# Altium footprint library Connector_Harting.PcbLib: 33 footprints (part 1 of 3)
Each footprint in its own frame and in the unit in brackets; x right, y up, seen from the top. Pads: shape width x height; smd on the part's side, far side on the other; paste and mask are expansions set on the pad; w line width, h text height; cw(c..) or ccw(c..) is an arc to the next point about the centre after c.
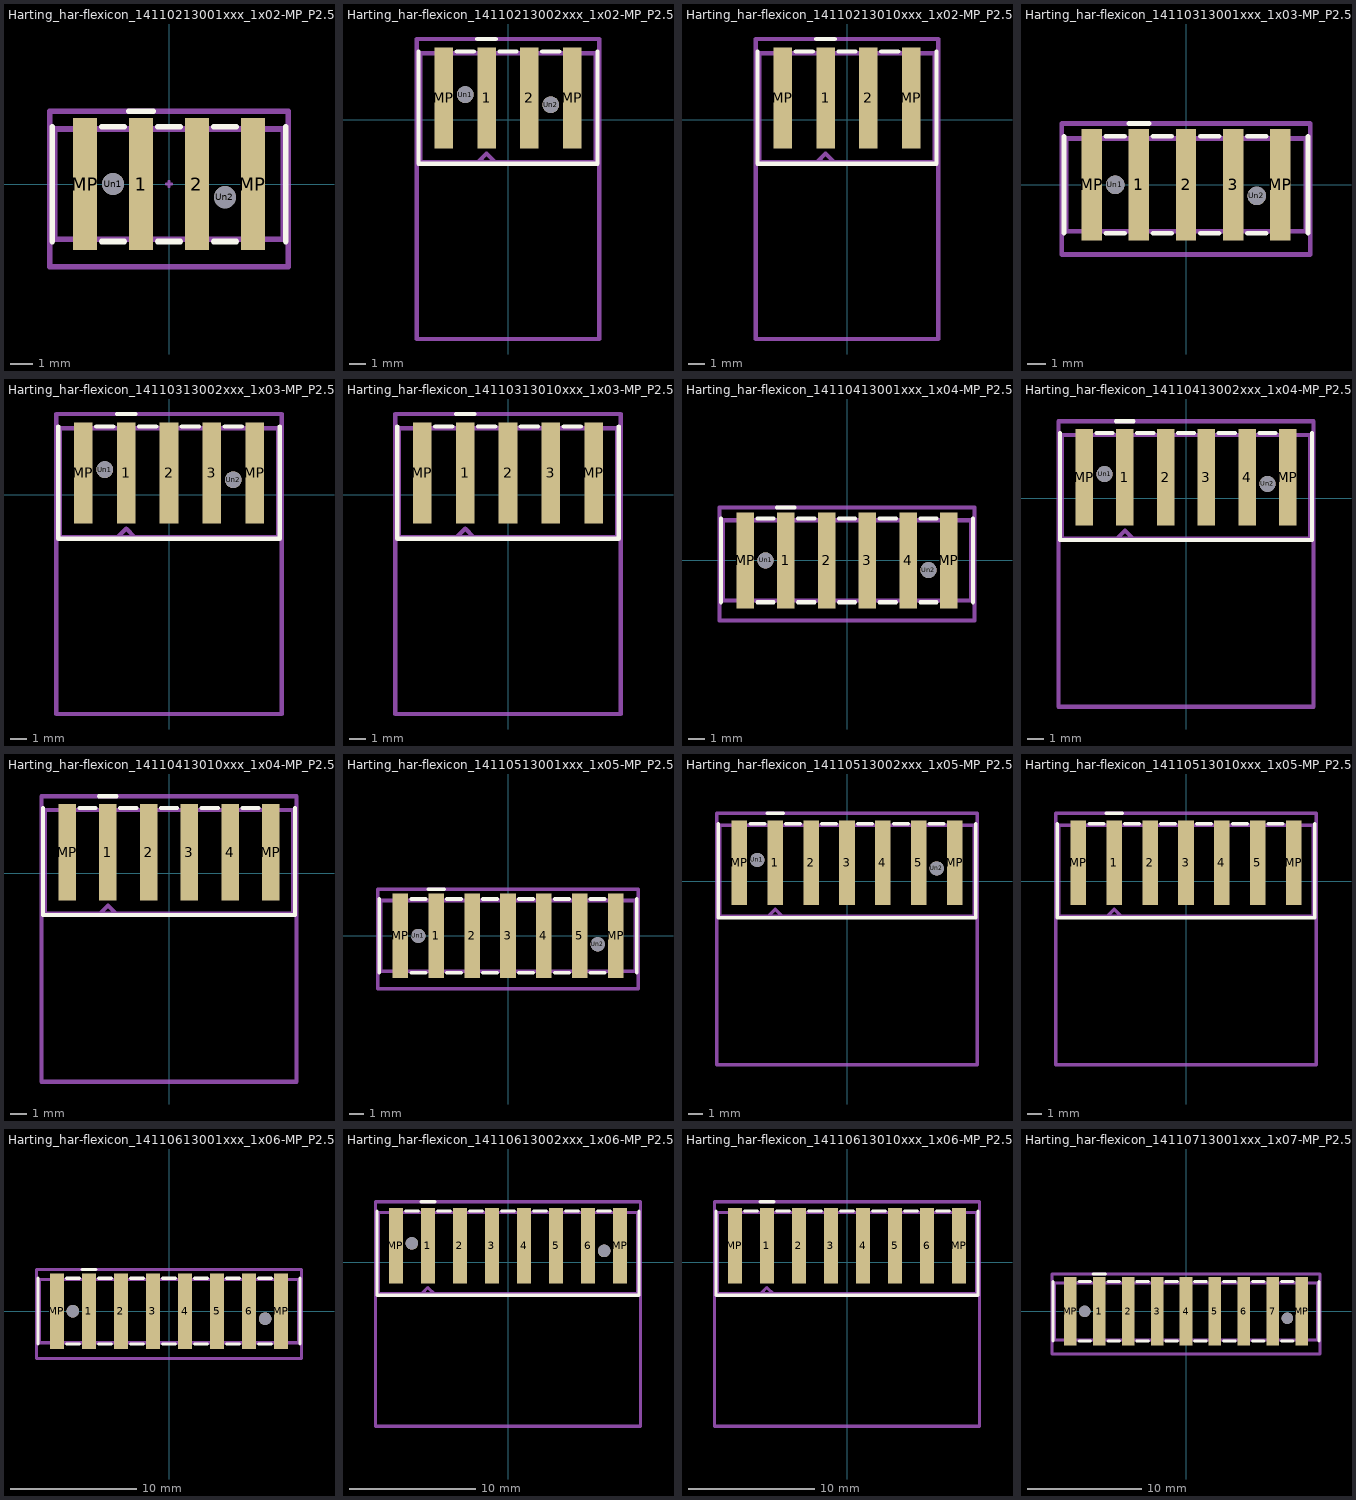
[diagram p0: the footprints below, top view; thin cyan lines are the x and y axes]

## Harting_har-flexicon_14110213001xxx_1x02-MP_P2.54mm_Vertical [mm]
pads (6):
  rect 1.1x6 smd: 1(-1.27,0) 2(1.27,0) MP(-3.81,0) MP(3.81,0)
  round 1 hole 1: Un1(-2.54,0) Un2(2.54,-0.6)
F.SilkS:
  lines w0.254: -5.305,-2.61 -5.305,2.61 ; -3.048,-2.61 -2.032,-2.61 ; -3.048,2.61 -2.032,2.61 ; -1.82,3.3 -0.72,3.3 ; -0.508,-2.61 0.508,-2.61 ; -0.508,2.61 0.508,2.61 ; 2.032,-2.61 3.048,-2.61 ; 2.032,2.61 3.048,2.61 ; 5.305,-2.61 5.305,2.61
Top Component Center:
  lines w0.127: -0.127,0 0.127,0 ; 0,-0.127 0,0.127
Top Assembly:
  lines w0.254: -1.77,-2.5 -1.27,-2 -0.77,-2.5 ; -5.195,-2.5 5.195,-2.5 5.195,2.5 -5.195,2.5 -5.195,-2.5
  text "'.Designator'" at -4.047,-0.84 h1
Top Courtyard:
  lines w0.254: -5.42,-3.75 5.42,-3.75 5.42,3.3 -5.42,3.3 -5.42,-3.75
Top Designator:
  text ".Designator" at -7.618,-0.733 h1.52

## Harting_har-flexicon_14110213002xxx_1x02-MP_P2.54mm_Horizontal [mm]
pads (6):
  rect 1.1x6 smd: 1(-1.27,1.3) 2(1.27,1.3) MP(-3.81,1.3) MP(3.81,1.3)
  round 1 hole 1: Un1(-2.54,1.5) Un2(2.54,0.9)
F.SilkS:
  lines w0.254: -5.305,4.06 -5.305,-2.61 5.305,-2.61 5.305,4.06 ; -3.048,4.06 -2.032,4.06 ; -1.82,4.8 -0.72,4.8 ; -0.508,4.06 0.508,4.06 ; 2.032,4.06 3.048,4.06
Top Assembly:
  lines w0.254: -1.77,-2.5 -1.27,-2 -0.77,-2.5 ; -5.195,-2.5 5.195,-2.5 5.195,3.95 -5.195,3.95 -5.195,-2.5
  text "'.Designator'" at -4.047,0.46 h1
Top Courtyard:
  lines w0.254: -5.42,-13 5.42,-13 5.42,4.8 -5.42,4.8 -5.42,-13
Top Designator:
  text ".Designator" at -7.618,-4.608 h1.52

## Harting_har-flexicon_14110213010xxx_1x02-MP_P2.54mm_Horizontal [mm]
pads (4):
  rect 1.1x6 smd: 1(-1.27,1.3) 2(1.27,1.3) MP(-3.81,1.3) MP(3.81,1.3)
F.SilkS:
  lines w0.254: -5.305,4.06 -5.305,-2.61 5.305,-2.61 5.305,4.06 ; -3.048,4.06 -2.032,4.06 ; -1.82,4.8 -0.72,4.8 ; -0.508,4.06 0.508,4.06 ; 2.032,4.06 3.048,4.06
Top Assembly:
  lines w0.254: -1.77,-2.5 -1.27,-2 -0.77,-2.5 ; -5.195,-2.5 5.195,-2.5 5.195,3.95 -5.195,3.95 -5.195,-2.5
  text "'.Designator'" at -4.047,0.46 h1
Top Courtyard:
  lines w0.254: -5.42,-13 5.42,-13 5.42,4.8 -5.42,4.8 -5.42,-13
Top Designator:
  text ".Designator" at -7.618,-4.608 h1.52

## Harting_har-flexicon_14110313001xxx_1x03-MP_P2.54mm_Vertical [mm]
pads (7):
  rect 1.1x6 smd: 1(-2.54,0) 2(0,0) 3(2.54,0) MP(-5.08,0) MP(5.08,0)
  round 1 hole 1: Un1(-3.81,0) Un2(3.81,-0.6)
F.SilkS:
  lines w0.254: -6.575,-2.61 -6.575,2.61 ; -4.318,-2.61 -3.302,-2.61 ; -4.318,2.61 -3.302,2.61 ; -3.09,3.3 -1.99,3.3 ; -1.778,-2.61 -0.762,-2.61 ; -1.778,2.61 -0.762,2.61 ; 0.762,-2.61 1.778,-2.61 ; 0.762,2.61 1.778,2.61 ; 3.302,-2.61 4.318,-2.61 ; 3.302,2.61 4.318,2.61 ; 6.575,-2.61 6.575,2.61
Top Assembly:
  lines w0.254: -3.04,-2.5 -2.54,-2 -2.04,-2.5 ; -6.465,-2.5 6.465,-2.5 6.465,2.5 -6.465,2.5 -6.465,-2.5
  text "'.Designator'" at -4.047,-0.84 h1
Top Courtyard:
  lines w0.254: -6.69,-3.75 6.69,-3.75 6.69,3.3 -6.69,3.3 -6.69,-3.75
Top Designator:
  text ".Designator" at -7.618,-0.733 h1.52

## Harting_har-flexicon_14110313002xxx_1x03-MP_P2.54mm_Horizontal [mm]
pads (7):
  rect 1.1x6 smd: 1(-2.54,1.3) 2(0,1.3) 3(2.54,1.3) MP(-5.08,1.3) MP(5.08,1.3)
  round 1 hole 1: Un1(-3.81,1.5) Un2(3.81,0.9)
F.SilkS:
  lines w0.254: -6.575,4.06 -6.575,-2.61 6.575,-2.61 6.575,4.06 ; -4.318,4.06 -3.302,4.06 ; -3.09,4.8 -1.99,4.8 ; -1.778,4.06 -0.762,4.06 ; 0.762,4.06 1.778,4.06 ; 3.302,4.06 4.318,4.06
Top Assembly:
  lines w0.254: -3.04,-2.5 -2.54,-2 -2.04,-2.5 ; -6.465,-2.5 6.465,-2.5 6.465,3.95 -6.465,3.95 -6.465,-2.5
  text "'.Designator'" at -4.047,0.46 h1
Top Courtyard:
  lines w0.254: -6.69,-13 6.69,-13 6.69,4.8 -6.69,4.8 -6.69,-13
Top Designator:
  text ".Designator" at -7.618,-4.608 h1.52

## Harting_har-flexicon_14110313010xxx_1x03-MP_P2.54mm_Horizontal [mm]
pads (5):
  rect 1.1x6 smd: 1(-2.54,1.3) 2(0,1.3) 3(2.54,1.3) MP(-5.08,1.3) MP(5.08,1.3)
F.SilkS:
  lines w0.254: -6.575,4.06 -6.575,-2.61 6.575,-2.61 6.575,4.06 ; -4.318,4.06 -3.302,4.06 ; -3.09,4.8 -1.99,4.8 ; -1.778,4.06 -0.762,4.06 ; 0.762,4.06 1.778,4.06 ; 3.302,4.06 4.318,4.06
Top Assembly:
  lines w0.254: -3.04,-2.5 -2.54,-2 -2.04,-2.5 ; -6.465,-2.5 6.465,-2.5 6.465,3.95 -6.465,3.95 -6.465,-2.5
  text "'.Designator'" at -4.047,0.46 h1
Top Courtyard:
  lines w0.254: -6.69,-13 6.69,-13 6.69,4.8 -6.69,4.8 -6.69,-13
Top Designator:
  text ".Designator" at -7.618,-4.608 h1.52

## Harting_har-flexicon_14110413001xxx_1x04-MP_P2.54mm_Vertical [mm]
pads (8):
  rect 1.1x6 smd: 1(-3.81,0) 2(-1.27,0) 3(1.27,0) 4(3.81,0) MP(-6.35,0) MP(6.35,0)
  round 1 hole 1: Un1(-5.08,0) Un2(5.08,-0.6)
F.SilkS:
  lines w0.254: -7.845,-2.61 -7.845,2.61 ; -5.588,-2.61 -4.572,-2.61 ; -5.588,2.61 -4.572,2.61 ; -4.36,3.3 -3.26,3.3 ; -3.048,-2.61 -2.032,-2.61 ; -3.048,2.61 -2.032,2.61 ; -0.508,-2.61 0.508,-2.61 ; -0.508,2.61 0.508,2.61 ; 2.032,-2.61 3.048,-2.61 ; 2.032,2.61 3.048,2.61 ; 4.572,-2.61 5.588,-2.61 ; 4.572,2.61 5.588,2.61 ; 7.845,-2.61 7.845,2.61
Top Assembly:
  lines w0.254: -4.31,-2.5 -3.81,-2 -3.31,-2.5 ; -7.735,-2.5 7.735,-2.5 7.735,2.5 -7.735,2.5 -7.735,-2.5
  text "'.Designator'" at -4.047,-0.84 h1
Top Courtyard:
  lines w0.254: -7.96,-3.75 7.96,-3.75 7.96,3.3 -7.96,3.3 -7.96,-3.75
Top Designator:
  text ".Designator" at -7.618,-0.733 h1.52

## Harting_har-flexicon_14110413002xxx_1x04-MP_P2.54mm_Horizontal [mm]
pads (8):
  rect 1.1x6 smd: 1(-3.81,1.3) 2(-1.27,1.3) 3(1.27,1.3) 4(3.81,1.3) MP(-6.35,1.3) MP(6.35,1.3)
  round 1 hole 1: Un1(-5.08,1.5) Un2(5.08,0.9)
F.SilkS:
  lines w0.254: -7.845,4.06 -7.845,-2.61 7.845,-2.61 7.845,4.06 ; -5.588,4.06 -4.572,4.06 ; -4.36,4.8 -3.26,4.8 ; -3.048,4.06 -2.032,4.06 ; -0.508,4.06 0.508,4.06 ; 2.032,4.06 3.048,4.06 ; 4.572,4.06 5.588,4.06
Top Assembly:
  lines w0.254: -4.31,-2.5 -3.81,-2 -3.31,-2.5 ; -7.735,-2.5 7.735,-2.5 7.735,3.95 -7.735,3.95 -7.735,-2.5
  text "'.Designator'" at -4.047,0.46 h1
Top Courtyard:
  lines w0.254: -7.96,-13 7.96,-13 7.96,4.8 -7.96,4.8 -7.96,-13
Top Designator:
  text ".Designator" at -7.618,-4.608 h1.52

## Harting_har-flexicon_14110413010xxx_1x04-MP_P2.54mm_Horizontal [mm]
pads (6):
  rect 1.1x6 smd: 1(-3.81,1.3) 2(-1.27,1.3) 3(1.27,1.3) 4(3.81,1.3) MP(-6.35,1.3) MP(6.35,1.3)
F.SilkS:
  lines w0.254: -7.845,4.06 -7.845,-2.61 7.845,-2.61 7.845,4.06 ; -5.588,4.06 -4.572,4.06 ; -4.36,4.8 -3.26,4.8 ; -3.048,4.06 -2.032,4.06 ; -0.508,4.06 0.508,4.06 ; 2.032,4.06 3.048,4.06 ; 4.572,4.06 5.588,4.06
Top Assembly:
  lines w0.254: -4.31,-2.5 -3.81,-2 -3.31,-2.5 ; -7.735,-2.5 7.735,-2.5 7.735,3.95 -7.735,3.95 -7.735,-2.5
  text "'.Designator'" at -4.047,0.46 h1
Top Courtyard:
  lines w0.254: -7.96,-13 7.96,-13 7.96,4.8 -7.96,4.8 -7.96,-13
Top Designator:
  text ".Designator" at -7.618,-4.608 h1.52

## Harting_har-flexicon_14110513001xxx_1x05-MP_P2.54mm_Vertical [mm]
pads (9):
  rect 1.1x6 smd: 1(-5.08,0) 2(-2.54,0) 3(0,0) 4(2.54,0) 5(5.08,0) MP(-7.62,0) MP(7.62,0)
  round 1 hole 1: Un1(-6.35,0) Un2(6.35,-0.6)
F.SilkS:
  lines w0.254: -9.115,-2.61 -9.115,2.61 ; -6.858,-2.61 -5.842,-2.61 ; -6.858,2.61 -5.842,2.61 ; -5.63,3.3 -4.53,3.3 ; -4.318,-2.61 -3.302,-2.61 ; -4.318,2.61 -3.302,2.61 ; -1.778,-2.61 -0.762,-2.61 ; -1.778,2.61 -0.762,2.61 ; 0.762,-2.61 1.778,-2.61 ; 0.762,2.61 1.778,2.61 ; 3.302,-2.61 4.318,-2.61 ; 3.302,2.61 4.318,2.61 ; 5.842,-2.61 6.858,-2.61 ; 5.842,2.61 6.858,2.61 ; 9.115,-2.61 9.115,2.61
Top Assembly:
  lines w0.254: -5.58,-2.5 -5.08,-2 -4.58,-2.5 ; -9.005,-2.5 9.005,-2.5 9.005,2.5 -9.005,2.5 -9.005,-2.5
  text "'.Designator'" at -4.047,-0.84 h1
Top Courtyard:
  lines w0.254: -9.23,-3.75 9.23,-3.75 9.23,3.3 -9.23,3.3 -9.23,-3.75
Top Designator:
  text ".Designator" at -7.618,-0.733 h1.52

## Harting_har-flexicon_14110513002xxx_1x05-MP_P2.54mm_Horizontal [mm]
pads (9):
  rect 1.1x6 smd: 1(-5.08,1.3) 2(-2.54,1.3) 3(0,1.3) 4(2.54,1.3) 5(5.08,1.3) MP(-7.62,1.3) MP(7.62,1.3)
  round 1 hole 1: Un1(-6.35,1.5) Un2(6.35,0.9)
F.SilkS:
  lines w0.254: -9.115,4.06 -9.115,-2.61 9.115,-2.61 9.115,4.06 ; -6.858,4.06 -5.842,4.06 ; -5.63,4.8 -4.53,4.8 ; -4.318,4.06 -3.302,4.06 ; -1.778,4.06 -0.762,4.06 ; 0.762,4.06 1.778,4.06 ; 3.302,4.06 4.318,4.06 ; 5.842,4.06 6.858,4.06
Top Assembly:
  lines w0.254: -5.58,-2.5 -5.08,-2 -4.58,-2.5 ; -9.005,-2.5 9.005,-2.5 9.005,3.95 -9.005,3.95 -9.005,-2.5
  text "'.Designator'" at -4.047,0.46 h1
Top Courtyard:
  lines w0.254: -9.23,-13 9.23,-13 9.23,4.8 -9.23,4.8 -9.23,-13
Top Designator:
  text ".Designator" at -7.618,-4.608 h1.52

## Harting_har-flexicon_14110513010xxx_1x05-MP_P2.54mm_Horizontal [mm]
pads (7):
  rect 1.1x6 smd: 1(-5.08,1.3) 2(-2.54,1.3) 3(0,1.3) 4(2.54,1.3) 5(5.08,1.3) MP(-7.62,1.3) MP(7.62,1.3)
F.SilkS:
  lines w0.254: -9.115,4.06 -9.115,-2.61 9.115,-2.61 9.115,4.06 ; -6.858,4.06 -5.842,4.06 ; -5.63,4.8 -4.53,4.8 ; -4.318,4.06 -3.302,4.06 ; -1.778,4.06 -0.762,4.06 ; 0.762,4.06 1.778,4.06 ; 3.302,4.06 4.318,4.06 ; 5.842,4.06 6.858,4.06
Top Assembly:
  lines w0.254: -5.58,-2.5 -5.08,-2 -4.58,-2.5 ; -9.005,-2.5 9.005,-2.5 9.005,3.95 -9.005,3.95 -9.005,-2.5
  text "'.Designator'" at -4.047,0.46 h1
Top Courtyard:
  lines w0.254: -9.23,-13 9.23,-13 9.23,4.8 -9.23,4.8 -9.23,-13
Top Designator:
  text ".Designator" at -7.618,-4.608 h1.52

## Harting_har-flexicon_14110613001xxx_1x06-MP_P2.54mm_Vertical [mm]
pads (10):
  rect 1.1x6 smd: 1(-6.35,0) 2(-3.81,0) 3(-1.27,0) 4(1.27,0) 5(3.81,0) 6(6.35,0) MP(-8.89,0) MP(8.89,0)
  round 1 hole 1: Un1(-7.62,0) Un2(7.62,-0.6)
F.SilkS:
  lines w0.254: -10.385,-2.61 -10.385,2.61 ; -8.128,-2.61 -7.112,-2.61 ; -8.128,2.61 -7.112,2.61 ; -6.9,3.3 -5.8,3.3 ; -5.588,-2.61 -4.572,-2.61 ; -5.588,2.61 -4.572,2.61 ; -3.048,-2.61 -2.032,-2.61 ; -3.048,2.61 -2.032,2.61 ; -0.508,-2.61 0.508,-2.61 ; -0.508,2.61 0.508,2.61 ; 2.032,-2.61 3.048,-2.61 ; 2.032,2.61 3.048,2.61 ; 4.572,-2.61 5.588,-2.61 ; 4.572,2.61 5.588,2.61 ; 7.112,-2.61 8.128,-2.61 ; 7.112,2.61 8.128,2.61 ; 10.385,-2.61 10.385,2.61
Top Assembly:
  lines w0.254: -6.85,-2.5 -6.35,-2 -5.85,-2.5 ; -10.275,-2.5 10.275,-2.5 10.275,2.5 -10.275,2.5 -10.275,-2.5
  text "'.Designator'" at -4.047,-0.84 h1
Top Courtyard:
  lines w0.254: -10.5,-3.75 10.5,-3.75 10.5,3.3 -10.5,3.3 -10.5,-3.75
Top Designator:
  text ".Designator" at -7.618,-0.733 h1.52

## Harting_har-flexicon_14110613002xxx_1x06-MP_P2.54mm_Horizontal [mm]
pads (10):
  rect 1.1x6 smd: 1(-6.35,1.3) 2(-3.81,1.3) 3(-1.27,1.3) 4(1.27,1.3) 5(3.81,1.3) 6(6.35,1.3) MP(-8.89,1.3) MP(8.89,1.3)
  round 1 hole 1: Un1(-7.62,1.5) Un2(7.62,0.9)
F.SilkS:
  lines w0.254: -10.385,4.06 -10.385,-2.61 10.385,-2.61 10.385,4.06 ; -8.128,4.06 -7.112,4.06 ; -6.9,4.8 -5.8,4.8 ; -5.588,4.06 -4.572,4.06 ; -3.048,4.06 -2.032,4.06 ; -0.508,4.06 0.508,4.06 ; 2.032,4.06 3.048,4.06 ; 4.572,4.06 5.588,4.06 ; 7.112,4.06 8.128,4.06
Top Assembly:
  lines w0.254: -6.85,-2.5 -6.35,-2 -5.85,-2.5 ; -10.275,-2.5 10.275,-2.5 10.275,3.95 -10.275,3.95 -10.275,-2.5
  text "'.Designator'" at -4.047,0.46 h1
Top Courtyard:
  lines w0.254: -10.5,-13 10.5,-13 10.5,4.8 -10.5,4.8 -10.5,-13
Top Designator:
  text ".Designator" at -7.618,-4.608 h1.52

## Harting_har-flexicon_14110613010xxx_1x06-MP_P2.54mm_Horizontal [mm]
pads (8):
  rect 1.1x6 smd: 1(-6.35,1.3) 2(-3.81,1.3) 3(-1.27,1.3) 4(1.27,1.3) 5(3.81,1.3) 6(6.35,1.3) MP(-8.89,1.3) MP(8.89,1.3)
F.SilkS:
  lines w0.254: -10.385,4.06 -10.385,-2.61 10.385,-2.61 10.385,4.06 ; -8.128,4.06 -7.112,4.06 ; -6.9,4.8 -5.8,4.8 ; -5.588,4.06 -4.572,4.06 ; -3.048,4.06 -2.032,4.06 ; -0.508,4.06 0.508,4.06 ; 2.032,4.06 3.048,4.06 ; 4.572,4.06 5.588,4.06 ; 7.112,4.06 8.128,4.06
Top Assembly:
  lines w0.254: -6.85,-2.5 -6.35,-2 -5.85,-2.5 ; -10.275,-2.5 10.275,-2.5 10.275,3.95 -10.275,3.95 -10.275,-2.5
  text "'.Designator'" at -4.047,0.46 h1
Top Courtyard:
  lines w0.254: -10.5,-13 10.5,-13 10.5,4.8 -10.5,4.8 -10.5,-13
Top Designator:
  text ".Designator" at -7.618,-4.608 h1.52

## Harting_har-flexicon_14110713001xxx_1x07-MP_P2.54mm_Vertical [mm]
pads (11):
  rect 1.1x6 smd: 1(-7.62,0) 2(-5.08,0) 3(-2.54,0) 4(0,0) 5(2.54,0) 6(5.08,0) 7(7.62,0) MP(-10.16,0) MP(10.16,0)
  round 1 hole 1: Un1(-8.89,0) Un2(8.89,-0.6)
F.SilkS:
  lines w0.254: -11.655,-2.61 -11.655,2.61 ; -9.398,-2.61 -8.382,-2.61 ; -9.398,2.61 -8.382,2.61 ; -8.17,3.3 -7.07,3.3 ; -6.858,-2.61 -5.842,-2.61 ; -6.858,2.61 -5.842,2.61 ; -4.318,-2.61 -3.302,-2.61 ; -4.318,2.61 -3.302,2.61 ; -1.778,-2.61 -0.762,-2.61 ; -1.778,2.61 -0.762,2.61 ; 0.762,-2.61 1.778,-2.61 ; 0.762,2.61 1.778,2.61 ; 3.302,-2.61 4.318,-2.61 ; 3.302,2.61 4.318,2.61 ; 5.842,-2.61 6.858,-2.61 ; 5.842,2.61 6.858,2.61 ; 8.382,-2.61 9.398,-2.61 ; 8.382,2.61 9.398,2.61 ; 11.655,-2.61 11.655,2.61
Top Assembly:
  lines w0.254: -8.12,-2.5 -7.62,-2 -7.12,-2.5 ; -11.545,-2.5 11.545,-2.5 11.545,2.5 -11.545,2.5 -11.545,-2.5
  text "'.Designator'" at -4.047,-0.84 h1
Top Courtyard:
  lines w0.254: -11.77,-3.75 11.77,-3.75 11.77,3.3 -11.77,3.3 -11.77,-3.75
Top Designator:
  text ".Designator" at -7.618,-0.733 h1.52